# Altium footprint library BZX384-C5V1,115.PcbLib: 4 footprints
Each footprint in its own frame and in the unit in brackets; x right, y up, seen from the top. Pads: shape width x height; smd on the part's side, far side on the other; paste and mask are expansions set on the pad; w line width, h text height; cw(c..) or ccw(c..) is an arc to the next point about the centre after c.
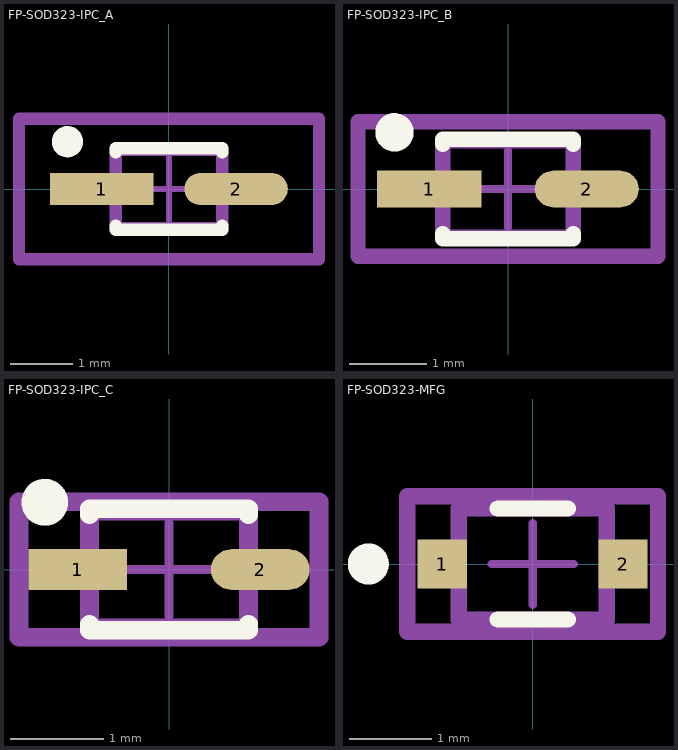
[diagram p0: the footprints below, top view; thin cyan lines are the x and y axes]

## FP-SOD323-IPC_A [mm]
pads (2):
  rect 1.655x0.516 smd paste+0 mask+0: 1(-1.075,0)
  rrect100% 1.655x0.516 smd paste+0 mask+0: 2(1.075,0)
Top Overlay:
  circle w0.25: c-1.627,0.758 r0.125
  lines w0.2: -0.85,-0.585 -0.85,-0.65 0.85,-0.65 0.85,-0.585 ; -0.85,0.585 -0.85,0.65 0.85,0.65 0.85,0.585
Top Assembly:
  lines w0.2: -2.403,-1.125 2.403,-1.125 2.403,1.125 -2.403,1.125 -2.403,-1.125
  text ".Designator" at 0,0.188 h1
Top 3D Body:
  lines w0.2: -0.85,-0.625 0.85,-0.625 0.85,0.625 -0.85,0.625 -0.85,-0.625
Top Courtyard:
  lines w0.2: -2.403,-1.125 2.403,-1.125 2.403,1.125 -2.403,1.125 -2.403,-1.125
Top Component Center:
  lines w0.1: -0.5,0 0.5,0 ; 0,-0.5 0,0.5
3D body "Diode_Nexperia_BZX384-C5V1_115_eec.STEP": height 0.25, standoff 0, extent -2.403,-1.125 2.403,1.125

## FP-SOD323-IPC_B [mm]
pads (2):
  rect 1.355x0.476 smd paste+0 mask+0: 1(-1.025,0)
  rrect100% 1.355x0.476 smd paste+0 mask+0: 2(1.025,0)
Top Overlay:
  circle w0.25: c-1.477,0.738 r0.125
  lines w0.2: -0.85,-0.585 -0.85,-0.65 0.85,-0.65 0.85,-0.585 ; -0.85,0.585 -0.85,0.65 0.85,0.65 0.85,0.585
Top Assembly:
  lines w0.2: -1.953,-0.875 1.953,-0.875 1.953,0.875 -1.953,0.875 -1.953,-0.875
  text ".Designator" at 0,0.188 h1
Top 3D Body:
  lines w0.2: -0.85,-0.625 0.85,-0.625 0.85,0.625 -0.85,0.625 -0.85,-0.625
Top Courtyard:
  lines w0.2: -1.953,-0.875 1.953,-0.875 1.953,0.875 -1.953,0.875 -1.953,-0.875
Top Component Center:
  lines w0.1: -0.5,0 0.5,0 ; 0,-0.5 0,0.5
3D body "Diode_Nexperia_BZX384-C5V1_115_eec.STEP": height 0.25, standoff 0, extent -1.953,-0.875 1.953,0.875

## FP-SOD323-IPC_C [mm]
pads (2):
  rect 1.055x0.436 smd paste+0 mask+0: 1(-0.975,0)
  rrect100% 1.055x0.436 smd paste+0 mask+0: 2(0.975,0)
Top Overlay:
  circle w0.25: c-1.327,0.718 r0.125
  lines w0.2: -0.85,-0.585 -0.85,-0.65 0.85,-0.65 0.85,-0.585 ; -0.85,0.585 -0.85,0.65 0.85,0.65 0.85,0.585
Top Assembly:
  lines w0.2: -1.603,-0.725 1.603,-0.725 1.603,0.725 -1.603,0.725 -1.603,-0.725
  text ".Designator" at 0,0.188 h1
Top 3D Body:
  lines w0.2: -0.85,-0.625 0.85,-0.625 0.85,0.625 -0.85,0.625 -0.85,-0.625
Top Courtyard:
  lines w0.2: -1.603,-0.725 1.603,-0.725 1.603,0.725 -1.603,0.725 -1.603,-0.725
Top Component Center:
  lines w0.1: -0.5,0 0.5,0 ; 0,-0.5 0,0.5
3D body "Diode_Nexperia_BZX384-C5V1_115_eec.STEP": height 0.25, standoff 0, extent -1.603,-0.725 1.603,0.725

## FP-SOD323-MFG [mm]
pads (2):
  rect 0.6x0.6 smd paste-1000 mask+0: 1(-1.1,0) 2(1.1,0)
Top Overlay:
  circle w0.25: c-2,0 r0.125
  lines w0.2: -0.425,-0.675 0.425,-0.675 ; -0.425,0.675 0.425,0.675
Top Paste:
  rectangle: -1.35,-0.25 -0.85,0.25
  rectangle: 0.85,-0.25 1.35,0.25
Top Assembly:
  lines w0.2: -1.525,-0.825 1.525,-0.825 1.525,0.825 -1.525,0.825 -1.525,-0.825
  text ".Designator" at 0,0.188 h1
Top 3D Body:
  lines w0.2: -0.9,-0.675 0.9,-0.675 0.9,0.675 -0.9,0.675 -0.9,-0.675
Top Courtyard:
  lines w0.2: -1.525,-0.825 1.525,-0.825 1.525,0.825 -1.525,0.825 -1.525,-0.825
Top Component Center:
  lines w0.1: -0.5,0 0.5,0 ; 0,-0.5 0,0.5
3D body "Diode_Nexperia_BZX384-C5V1_115_eec.STEP": height 0.25, standoff 0, extent -1.525,-0.825 1.525,0.825